# Altium schematic symbol library KVM Symbols.SchLib: 10 symbols
Pins are listed as number, name and electrical type; pins without a type are passive.

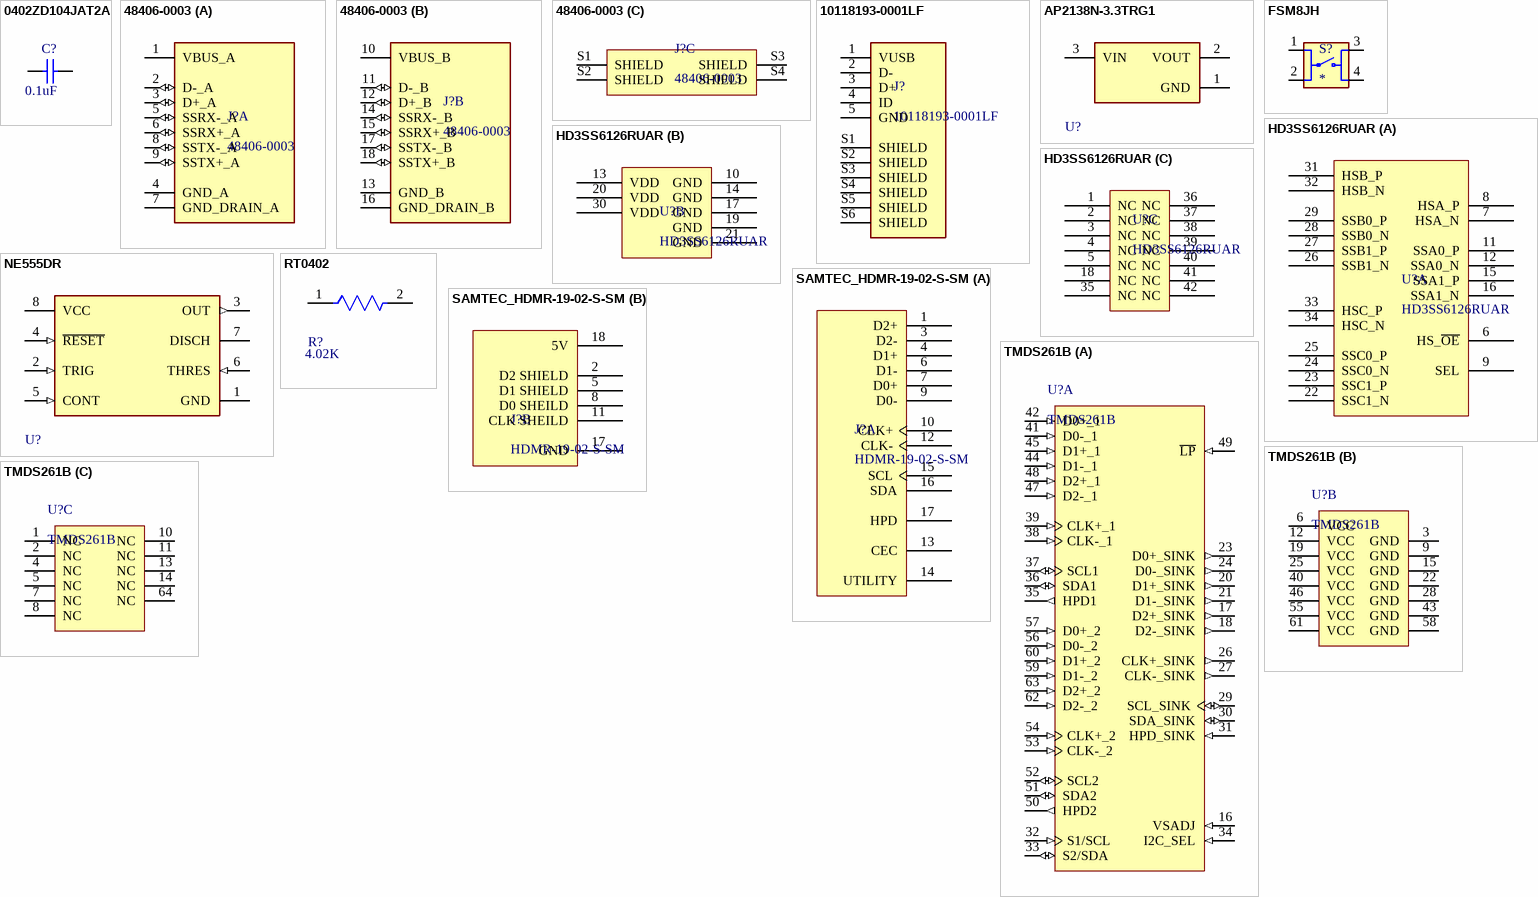
[diagram p0: symbols 0402ZD104JAT2A to TMDS261B]

## 0402ZD104JAT2A
designator C?  value 0.1uF  (hidden comment: 0402ZD104JAT2A)
CAP CER 0.1UF 10V X5R 0402
footprint CAPC1005X56X25ML10T15 - Cloned (Chip Capacitor, 2-Leads, Body 1.00x0.50mm, IPC Low Density)
pins: 1, 2
1 alternate drawing of the same symbol

## 48406-0003
designator J?
USB-A (USB TYPE-A), Stacked USB 3.2 Gen 1 (USB 3.1 Gen 1, Superspeed (USB 3.0)) Receptacle Connector 18 Position Through Hole, Right Angle; MF: Molex; Package: None; Check_prices: https://www.snapeda.com/parts/48406-0003/Molex/view-part/?ref=eda; Value: *; Price: None; MP: 48406-0003; Purchase-URL: https://pricing.snapeda.com/search/part/48406-0003/?ref=eda; SnapEDA_Link: https://www.snapeda.com/parts/48406-0003/Molex/view-part/?ref=snap; Availability: In Stock
footprint MOLEX_48406
part A pins: 1 VBUS_A (power), 2 D-_A (io), 3 D+_A (io), 4 GND_A (power), 5 SSRX-_A (io), 6 SSRX+_A (io), 7 GND_DRAIN_A (power), 8 SSTX-_A (io), 9 SSTX+_A (io)
part B pins: 10 VBUS_B (power), 11 D-_B (io), 12 D+_B (io), 13 GND_B (power), 14 SSRX-_B (io), 15 SSRX+_B (io), 16 GND_DRAIN_B (power), 17 SSTX-_B (io), 18 SSTX+_B (io)
part C pins: S1 SHIELD, S2 SHIELD, S3 SHIELD, S4 SHIELD

## 10118193-0001LF
designator J?
USB - micro B USB 2.0 Receptacle Connector 5 Position Surface Mount, Right Angle; Through Hole; MF: Amphenol ICC; Availability: Unavailable; SnapEDA_Link: https://www.snapeda.com/parts/10118193-0001LF/Amphenol%20FCI/view-part/2758989/?ref=snap; MP: 10118193-0001LF; Price: None; Value: *; Package: None
footprint FCI_10118193-0001LF
pins: 1 VUSB, 2 D-, 3 D+, 4 ID, 5 GND, S1 SHIELD, S2 SHIELD, S3 SHIELD, S4 SHIELD, S5 SHIELD, S6 SHIELD

## AP2138N-3.3TRG1
designator U?  (value not drawn)
IC REG LINEAR 3.3V 250MA SOT23-3
footprint FP-SOT23-MFG
pins: 1 GND (power), 2 VOUT (power), 3 VIN (power)

## FSM8JH
designator S?
Switch, Pushbutton, Tactile, SPST, Thru Hole, Vertical, 6MM, Black; MP: FSM8JH; Value: *; Package: None; Availability: Unavailable; Price: None
footprint SW_FSM8JH
pins: 1, 2, 3, 4

## HD3SS6126RUAR
designator U?
High Speed Differential Switch 2: 1/1: 2 MUX/DEMUX USB 2.0/USB 3.0 3.3V T/R 42-Pin WQFN EP
footprint QFN50P900X350X80-43N
part A pins: 6 HS_~{OE}, 7 HSA_N, 8 HSA_P, 9 SEL, 11 SSA0_P, 12 SSA0_N, 15 SSA1_P, 16 SSA1_N, 22 SSC1_N, 23 SSC1_P, 24 SSC0_N, 25 SSC0_P, 26 SSB1_N, 27 SSB1_P, 28 SSB0_N, 29 SSB0_P, 31 HSB_P, 32 HSB_N, 33 HSC_P, 34 HSC_N
part B pins: 10 GND, 13 VDD, 14 GND, 17 GND, 19 GND, 20 VDD, 21 GND, 30 VDD
part C pins: 1 NC, 2 NC, 3 NC, 4 NC, 5 NC, 18 NC, 35 NC, 36 NC, 37 NC, 38 NC, 39 NC, 40 NC, 41 NC, 42 NC

## NE555DR
designator U?  (value not drawn)
IC OSC SGL TIMER 100KHZ 8-SOIC
footprint FP-D0008A-MFG
pins: 1 GND (power), 2 TRIG (in), 3 OUT (out), 4 ~{RESET} (in), 5 CONT (in), 6 THRES (in), 7 DISCH (oc), 8 VCC (power)

## RT0402
designator R?  value 4.02K  (hidden comment: *)
RT0402 4.02KΩ 0.063W 50 ppm/°C 1.00%
footprint FP-RT0402-MFG
pins: 1, 2

## SAMTEC_HDMR-19-02-S-SM
designator J?, comment HDMR-19-02-S-SM
Conn HDMI RCP 19 POS 0.5mm Solder RA SMD 19 Terminal 1 Port
footprint SAMTEC_HDMR-19-02-S-SM
part A pins: 1 D2+, 3 D2-, 4 D1+, 6 D1-, 7 D0+, 9 D0-, 10 CLK+, 12 CLK-, 13 CEC, 14 UTILITY, 15 SCL, 16 SDA, 17 HPD
part B pins: 2 D2 SHIELD, 5 D1 SHIELD, 8 D0 SHEILD, 11 CLK SHEILD, 17 GND, 18 5V (power)

## TMDS261B
designator U?
3-Gbps 2-to-1 HDMI/DVI mux with adaptive equalization 64-TQFP 0 to 70
footprint PAG0064A_N (QFP, 64-Leads, Body 10x10mm, Pitch 0.5mm, IPC Medium Density)
part A pins: 16 VSADJ (in) "TMDS-compliant voltage swing control", 17 D2+_SINK (out) "TMDS sink differential data outputs", 18 D2-_SINK (out) "TMDS sink differential data outputs", 20 D1+_SINK (out) "TMDS sink differential data outputs", 21 D1-_SINK (out) "TMDS sink differential data outputs", 23 D0+_SINK (out) "TMDS sink differential data outputs", 24 D0-_SINK (out) "TMDS sink differential data outputs", 26 CLK+_SINK (out) "TMDS sink differential clock", 27 CLK-_SINK (out) "TMDS sink differential clock", 29 SCL_SINK (io) "TMDS sink-side bidirectional DDC clock", 30 SDA_SINK (io) "TMDS sink-side bidirectional DDC data", 31 HPD_SINK (in) "Sink hot-plug-detect input", 32 S1/SCL (in) "Source select 1(GPIO) / local I2C clock (I2C)", 33 S2/SDA (io) "Source select 2 (GPIO) / local I2C data (I2C)", 34 I2C_SEL (in) "GPIO/local I2C control select", 35 HPD1 (out) "Source port hot-plug-detect output", 36 SDA1 (io) "TMDS port bidirectional DDC data", 37 SCL1 (io) "TMDS port bidirectional DDC clock", 38 CLK-_1 (in) "Port-1 TMDS differential clock", 39 CLK+_1 (in) "Port-1 TMDS differential clock", 41 D0-_1 (in) "Port-1 TMDS differential data inputs", 42 D0+_1 (in) "Port-1 TMDS differential data inputs", 44 D1-_1 (in) "Port-1 TMDS differential data inputs", 45 D1+_1 (in) "Port-1 TMDS differential data inputs", 47 D2-_1 (in) "Port-1 TMDS differential data inputs", 48 D2+_1 (in) "Port-1 TMDS differential data inputs", 49 ~{LP} (in) "Low-power select bar", 50 HPD2 (out) "Source port hot-plug-detect output", 51 SDA2 (io) "TMDS port bidirectional DDC data", 52 SCL2 (io) "TMDS port bidirectional DDC clock", 53 CLK-_2 (in) "Port-2 TMDS differential clock", 54 CLK+_2 (in) "Port-2 TMDS differential clock", 56 D0-_2 (in) "Port-2 TMDS differential data inputs", 57 D0+_2 (in) "Port-2 TMDS differential data inputs", 59 D1-_2 (in) "Port-2 TMDS differential data inputs", 60 D1+_2 (in) "Port-2 TMDS differential data inputs", 62 D2-_2 (in) "Port-2 TMDS differential data inputs", 63 D2+_2 (in) "Port-2 TMDS differential data inputs"
part B pins: 3 GND (power) "Ground", 6 VCC (power) "3.3-V supply", 9 GND (power) "Ground", 12 VCC (power) "3.3-V supply", 15 GND (power) "Ground", 19 VCC (power) "3.3-V supply", 22 GND (power) "Ground", 25 VCC (power) "3.3-V supply", 28 GND (power) "Ground", 40 VCC (power) "3.3-V supply", 43 GND (power) "Ground", 46 VCC (power) "3.3-V supply", 55 VCC (power) "3.3-V supply", 58 GND (power) "Ground", 61 VCC (power) "3.3-V supply"
part C pins: 1 NC "No-connect pins", 2 NC "No-connect pins", 4 NC "No-connect pins", 5 NC "No-connect pins", 7 NC "No-connect pins", 8 NC "No-connect pins", 10 NC "No-connect pins", 11 NC "No-connect pins", 13 NC "No-connect pins", 14 NC "No-connect pins", 64 NC "No-connect pins"